# Altium footprint library WiCam.PcbLib: 6 footprints
Each footprint in its own frame and in the unit in brackets; x right, y up, seen from the top. Pads: shape width x height; smd on the part's side, far side on the other; paste and mask are expansions set on the pad; w line width, h text height; cw(c..) or ccw(c..) is an arc to the next point about the centre after c.
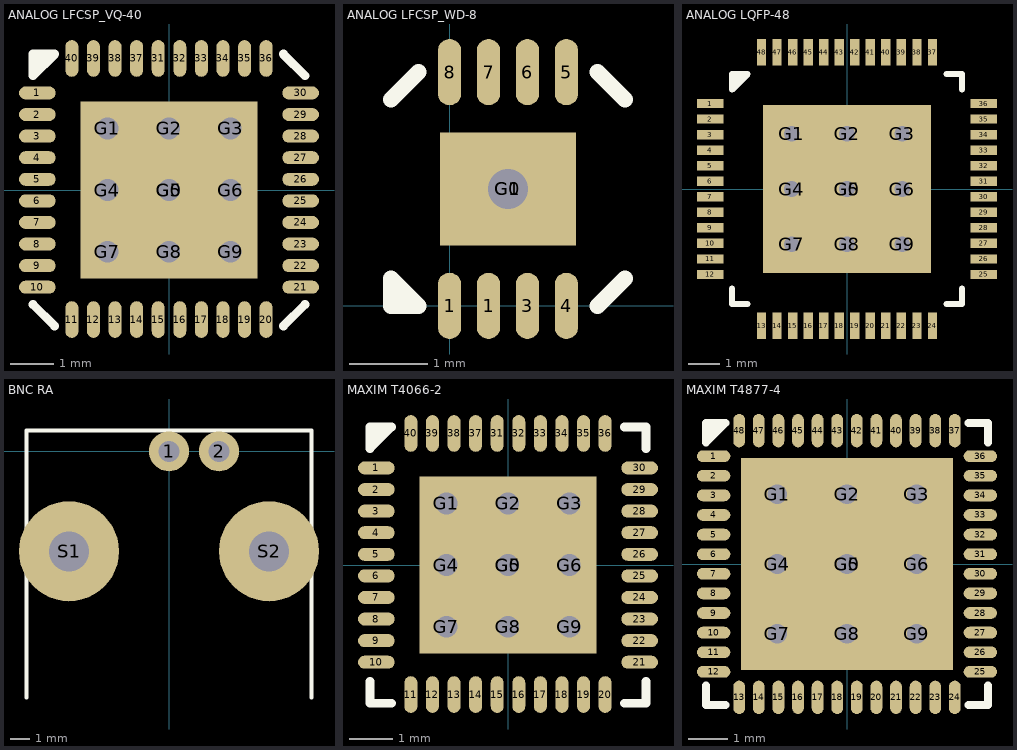
[diagram p0: the footprints below, top view; thin cyan lines are the x and y axes]

## ANALOG LFCSP_VQ-40 [mm] "LFCSP_VQ EP 40 6X6 MM"
pads (50):
  rrect100% 0.85x0.3 smd paste+0 mask+0.05: 1(-3.05,2.25) 2(-3.05,1.75) 3(-3.05,1.25) 4(-3.05,0.75) 5(-3.05,0.25) 6(-3.05,-0.25) 7(-3.05,-0.75) 8(-3.05,-1.25) 9(-3.05,-1.75) 10(-3.05,-2.25) 21(3.05,-2.25) 22(3.05,-1.75) 23(3.05,-1.25) 24(3.05,-0.75) 25(3.05,-0.25) 26(3.05,0.25) 27(3.05,0.75) 28(3.05,1.25) 29(3.05,1.75) 30(3.05,2.25)
  rrect100% 0.3x0.85 smd paste+0 mask+0.05: 11(-2.25,-3) 12(-1.75,-3) 13(-1.25,-3) 14(-0.75,-3) 15(-0.25,-3) 16(0.25,-3) 17(0.75,-3) 18(1.25,-3) 19(1.75,-3) 20(2.25,-3) 31(-0.25,3.05) 32(0.25,3.05) 33(0.75,3.05) 34(1.25,3.05) 35(1.75,3.05) 36(2.25,3.05) 37(-0.75,3.05) 38(-1.25,3.05) 39(-1.75,3.05) 40(-2.25,3.05)
  rect 4.1x4.1 smd paste-999 mask+0.05: G0(0,0)
  round 1.016 hole 0.508: G1(-1.428,1.428) G2(0,1.428) G3(1.428,1.428) G4(-1.428,0) G5(0,0) G6(1.428,0) G7(-1.428,-1.428) G8(0,-1.428) G9(1.428,-1.428)
Top Overlay:
  region: -3.15,3.15 -3.15,2.65 -2.65,3.15
  lines w0.203: -3.15,-2.65 -2.65,-3.15 ; -2.65,3.15 -3.15,3.15 -3.15,2.65 -2.65,3.15 ; 2.65,-3.15 3.15,-2.65 ; 2.65,3.15 3.15,2.65
Top Paste:
  rectangle: 0.25,0.25 1.5,1.5
  rectangle: 0.25,-1.5 1.5,-0.25
  rectangle: -1.5,-1.5 -0.25,-0.25
  rectangle: -1.5,0.25 -0.25,1.5
3D body: height 0.9, standoff 0, extent -3,-3 3,3

## ANALOG LFCSP_WD-8 [mm]
pads (10):
  rrect100% 0.3x0.85 smd paste+0 mask+0.05: 1(0,0) 1(0.5,0) 3(1,0) 4(1.5,0) 5(1.5,3) 6(1,3) 7(0.5,3) 8(0,3)
  rect 1.74x1.45 smd paste+0 mask+0.05: G0(0.75,1.5)
  round 1.016 hole 0.508 paste+0 mask+0.05: G1(0.75,1.5)
Top Overlay:
  lines w0.203: -0.75,2.65 -0.4,3 ; 1.9,0 2.25,0.35 ; 1.9,3 2.25,2.65 ; -0.75,0 -0.4,0 -0.75,0.35 -0.75,0
3D body: height 0.9, standoff -0.04, extent -0.75,-0.001 2.25,3.001

## ANALOG LQFP-48 [mm] "TQFN EP 48 7X7 MM"
pads (58):
  rect 0.85x0.3 smd paste+0 mask+0.05: 1(-4.4,2.75) 2(-4.4,2.25) 3(-4.4,1.75) 4(-4.4,1.25) 5(-4.4,0.75) 6(-4.4,0.25) 7(-4.4,-0.25) 8(-4.4,-0.75) 9(-4.4,-1.25) 10(-4.4,-1.75) 11(-4.4,-2.25) 12(-4.4,-2.75) 25(4.4,-2.75) 26(4.4,-2.25) 27(4.4,-1.75) 28(4.4,-1.25) 29(4.4,-0.75) 30(4.4,-0.25) 31(4.4,0.25) 32(4.4,0.75) 33(4.4,1.25) 34(4.4,1.75) 35(4.4,2.25) 36(4.4,2.75)
  rect 0.3x0.85 smd paste+0 mask+0.05: 13(-2.75,-4.4) 14(-2.25,-4.4) 15(-1.75,-4.4) 16(-1.25,-4.4) 17(-0.75,-4.4) 18(-0.25,-4.4) 19(0.25,-4.4) 20(0.75,-4.4) 21(1.25,-4.4) 22(1.75,-4.4) 23(2.25,-4.4) 24(2.75,-4.4) 37(2.75,4.4) 38(2.25,4.4) 39(1.75,4.4) 40(1.25,4.4) 41(0.75,4.4) 42(0.25,4.4) 43(-0.25,4.4) 44(-0.75,4.4) 45(-1.25,4.4) 46(-1.75,4.4) 47(-2.25,4.4) 48(-2.75,4.4)
  rect 5.4x5.4 smd paste-999 mask+0.05: G0(0,0)
  round 1.016 hole 0.508: G1(-1.778,1.778) G2(0,1.778) G3(1.778,1.778) G4(-1.778,0) G5(0,0) G6(1.778,0) G7(-1.778,-1.778) G8(0,-1.778) G9(1.778,-1.778)
Top Overlay:
  region: -3.7,3.7 -3.7,3.2 -3.2,3.7
  lines w0.203: -3.7,-3.2 -3.7,-3.7 -3.2,-3.7 ; 3.2,-3.7 3.7,-3.7 3.7,-3.2 ; 3.2,3.7 3.7,3.7 3.7,3.2 ; -3.7,3.2 -3.7,3.7 -3.2,3.7 -3.7,3.2
Top Paste:
  rectangle: 0.25,0.25 2,2
  rectangle: 0.25,-2 2,-0.25
  rectangle: -2,-2 -0.25,-0.25
  rectangle: -2,0.25 -0.25,2
3D body: height 1.56, standoff 0, extent -4.5,-4.436 4.5,4.564

## BNC RA [mil]
pads (4):
  round 80 hole 42: 1(0,0) 2(100,0)
  round 200 hole 80: S1(-200,-200) S2(200,-200)
Top Overlay:
  lines w8: -285.43,-492.13 -285.43,41.34 285.43,41.34 285.43,-492.13
3D body: height 619.21, standoff -168.19, extent -289.76,-1329.72 291.34,77.76

## MAXIM T4066-2 [mm] "TQFN EP 40 6X6 MM"
pads (50):
  rrect100% 0.85x0.3 smd paste+0 mask+0.05: 1(-3.05,2.25) 2(-3.05,1.75) 3(-3.05,1.25) 4(-3.05,0.75) 5(-3.05,0.25) 6(-3.05,-0.25) 7(-3.05,-0.75) 8(-3.05,-1.25) 9(-3.05,-1.75) 10(-3.05,-2.25) 21(3.05,-2.25) 22(3.05,-1.75) 23(3.05,-1.25) 24(3.05,-0.75) 25(3.05,-0.25) 26(3.05,0.25) 27(3.05,0.75) 28(3.05,1.25) 29(3.05,1.75) 30(3.05,2.25)
  rrect100% 0.3x0.85 smd paste+0 mask+0.05: 11(-2.25,-3) 12(-1.75,-3) 13(-1.25,-3) 14(-0.75,-3) 15(-0.25,-3) 16(0.25,-3) 17(0.75,-3) 18(1.25,-3) 19(1.75,-3) 20(2.25,-3) 31(-0.25,3.05) 32(0.25,3.05) 33(0.75,3.05) 34(1.25,3.05) 35(1.75,3.05) 36(2.25,3.05) 37(-0.75,3.05) 38(-1.25,3.05) 39(-1.75,3.05) 40(-2.25,3.05)
  rect 4.1x4.1 smd paste-999 mask+0.05: G0(0,0)
  round 1.016 hole 0.508: G1(-1.428,1.428) G2(0,1.428) G3(1.428,1.428) G4(-1.428,0) G5(0,0) G6(1.428,0) G7(-1.428,-1.428) G8(0,-1.428) G9(1.428,-1.428)
Top Overlay:
  region: -3.2,3.2 -3.2,2.7 -2.7,3.2
  lines w0.203: -3.2,-2.7 -3.2,-3.2 -2.7,-3.2 ; 2.7,-3.2 3.2,-3.2 3.2,-2.7 ; 2.7,3.2 3.2,3.2 3.2,2.7 ; -3.2,2.7 -2.7,3.2 -3.2,3.2 -3.2,2.7
Top Paste:
  rectangle: -1.5,0.25 -0.25,1.5
  rectangle: -1.5,-1.5 -0.25,-0.25
  rectangle: 0.25,-1.5 1.5,-0.25
  rectangle: 0.25,0.25 1.5,1.5
3D body: height 1.05, standoff 0, extent -3.05,-3.075 3.1,3.075

## MAXIM T4877-4 [mm] "TQFN EP 48 7X7 MM"
pads (58):
  rrect100% 0.85x0.3 smd paste+0 mask+0.05: 1(-3.4,2.75) 2(-3.4,2.25) 3(-3.4,1.75) 4(-3.4,1.25) 5(-3.4,0.75) 6(-3.4,0.25) 7(-3.4,-0.25) 8(-3.4,-0.75) 9(-3.4,-1.25) 10(-3.4,-1.75) 11(-3.4,-2.25) 12(-3.4,-2.75) 25(3.4,-2.75) 26(3.4,-2.25) 27(3.4,-1.75) 28(3.4,-1.25) 29(3.4,-0.75) 30(3.4,-0.25) 31(3.4,0.25) 32(3.4,0.75) 33(3.4,1.25) 34(3.4,1.75) 35(3.4,2.25) 36(3.4,2.75)
  rrect100% 0.3x0.85 smd paste+0 mask+0.05: 13(-2.75,-3.4) 14(-2.25,-3.4) 15(-1.75,-3.4) 16(-1.25,-3.4) 17(-0.75,-3.4) 18(-0.25,-3.4) 19(0.25,-3.4) 20(0.75,-3.4) 21(1.25,-3.4) 22(1.75,-3.4) 23(2.25,-3.4) 24(2.75,-3.4) 37(2.75,3.4) 38(2.25,3.4) 39(1.75,3.4) 40(1.25,3.4) 41(0.75,3.4) 42(0.25,3.4) 43(-0.25,3.4) 44(-0.75,3.4) 45(-1.25,3.4) 46(-1.75,3.4) 47(-2.25,3.4) 48(-2.75,3.4)
  rect 5.4x5.4 smd paste-999 mask+0.05: G0(0,0)
  round 1.016 hole 0.508: G1(-1.778,1.778) G2(0,1.778) G3(1.778,1.778) G4(-1.778,0) G5(0,0) G6(1.778,0) G7(-1.778,-1.778) G8(0,-1.778) G9(1.778,-1.778)
Top Overlay:
  region: -3.6,3.6 -3.6,3.1 -3.1,3.6
  lines w0.203: -3.6,-3.1 -3.6,-3.6 -3.1,-3.6 ; 3.1,-3.6 3.6,-3.6 3.6,-3.1 ; 3.1,3.6 3.6,3.6 3.6,3.1 ; -3.6,3.1 -3.1,3.6 -3.6,3.6 -3.6,3.1
Top Paste:
  rectangle: -2,0.25 -0.25,2
  rectangle: -2,-2 -0.25,-0.25
  rectangle: 0.25,-2 2,-0.25
  rectangle: 0.25,0.25 2,2
3D body: height 0.75, standoff 0, extent -3.5,-3.5 3.5,3.5
3D body: height 0.78, standoff -0.02, extent -3.51,-3.51 3.51,3.51